# Altium footprint library 691 330 300 0xx.PcbLib: 6 footprints
Each footprint in its own frame and in the unit in brackets; x right, y up, seen from the top. Pads: shape width x height; smd on the part's side, far side on the other; paste and mask are expansions set on the pad; w line width, h text height; cw(c..) or ccw(c..) is an arc to the next point about the centre after c.
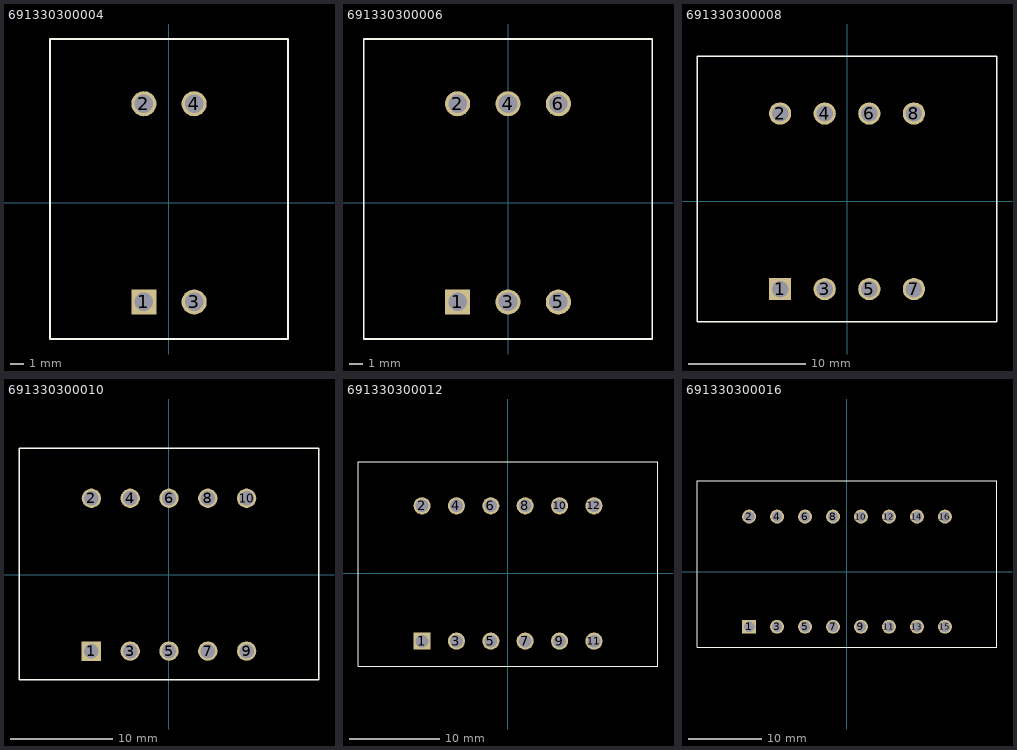
[diagram p0: the footprints below, top view; thin cyan lines are the x and y axes]

## 691330300004 [mm] "3,81mm - PCB - Dual row - Vertical - Flanges - 04p"
pads (4):
  rect 1.9x1.9 hole 1.4: 1(-1.905,-7.5)
  round 1.9 hole 1.4: 2(-1.905,7.5) 3(1.905,-7.5) 4(1.905,7.5)
Top Overlay:
  lines w0.127: -9.005,-10.3 9.005,-10.3 9.005,12.4 -9.005,12.4 -9.005,-10.3
3D body: height 22.01, standoff -3.49, extent -9.005,-10.3 9.005,12.4

## 691330300006 [mm] "3,81mm - PCB - Dual row - Vertical - Flanges - 06p"
pads (6):
  rect 1.9x1.9 hole 1.4: 1(-3.81,-7.5)
  round 1.9 hole 1.4: 2(-3.81,7.5) 3(0,-7.5) 4(0,7.5) 5(3.81,-7.5) 6(3.81,7.5)
Top Overlay:
  lines w0.127: -7.1,-10.3 10.91,-10.3 10.91,12.4 -7.1,12.4 ; 7.1,-10.3 -10.91,-10.3 -10.91,12.4 7.1,12.4
3D body: height 22.01, standoff -3.49, extent -10.91,-10.3 10.91,12.4

## 691330300008 [mm] "3,81mm - PCB - Dual row - Vertical - Flanges - 08p"
pads (8):
  rect 1.9x1.9 hole 1.4: 1(-5.715,-7.5)
  round 1.9 hole 1.4: 2(-5.715,7.5) 3(-1.905,-7.5) 4(-1.905,7.5) 5(1.905,-7.5) 6(1.905,7.5) 7(5.715,-7.5) 8(5.715,7.5)
Top Overlay:
  lines w0.127: -5.195,-10.3 12.815,-10.3 12.815,12.4 -5.195,12.4 ; 5.195,-10.3 -12.815,-10.3 -12.815,12.4 5.195,12.4
3D body: height 22.01, standoff -3.49, extent -12.815,-10.3 12.815,12.4

## 691330300010 [mm] "3,81mm - PCB - Dual row - Vertical - Flanges - 10p"
pads (10):
  rect 1.9x1.9 hole 1.4: 1(-7.62,-7.5)
  round 1.9 hole 1.4: 2(-7.62,7.5) 3(-3.81,-7.5) 4(-3.81,7.5) 5(0,-7.5) 6(0,7.5) 7(3.81,-7.5) 8(3.81,7.5) 9(7.62,-7.5) 10(7.62,7.5)
Top Overlay:
  lines w0.127: -7.1,-10.3 10.91,-10.3 ; -7.1,12.4 10.91,12.4 ; -3.29,-10.3 14.72,-10.3 14.72,12.4 -3.29,12.4 ; 3.29,-10.3 -14.72,-10.3 -14.72,12.4 3.29,12.4
3D body: height 22.01, standoff -3.49, extent -14.72,-10.3 14.72,12.4

## 691330300012 [mm] "3,81mm - PCB - Dual row - Vertical - Flanges - 12p"
pads (12):
  rect 1.9x1.9 hole 1.4: 1(-9.525,-7.5)
  round 1.9 hole 1.4: 2(-9.525,7.5) 3(-5.715,-7.5) 4(-5.715,7.5) 5(-1.905,-7.5) 6(-1.905,7.5) 7(1.905,-7.5) 8(1.905,7.5) 9(5.715,-7.5) 10(5.715,7.5) 11(9.525,-7.5) 12(9.525,7.5)
Top Overlay:
  lines w0.127: -9.005,-10.3 9.005,-10.3 ; -9.005,12.4 9.005,12.4 ; -1.385,-10.3 16.625,-10.3 16.625,12.4 -1.385,12.4 ; 1.385,-10.3 -16.625,-10.3 -16.625,12.4 1.385,12.4
3D body: height 22.01, standoff -3.49, extent -16.625,-10.3 16.625,12.4

## 691330300016 [mm] "3,81mm - PCB - Dual row - Vertical - Flanges - 16p"
pads (16):
  rect 1.9x1.9 hole 1.4: 1(-13.335,-7.5)
  round 1.9 hole 1.4: 2(-13.335,7.5) 3(-9.525,-7.5) 4(-9.525,7.5) 5(-5.715,-7.5) 6(-5.715,7.5) 7(-1.905,-7.5) 8(-1.905,7.5) 9(1.905,-7.5) 10(1.905,7.5) 11(5.715,-7.5) 12(5.715,7.5) 13(9.525,-7.5) 14(9.525,7.5) 15(13.335,-7.5) 16(13.335,7.5)
Top Overlay:
  lines w0.127: -12.815,-10.3 5.195,-10.3 ; -12.815,12.4 5.195,12.4 ; -5.195,-10.3 12.815,-10.3 ; -5.195,12.4 12.815,12.4 ; -2.425,-10.3 -20.435,-10.3 -20.435,12.4 -2.425,12.4 ; 2.425,-10.3 20.435,-10.3 20.435,12.4 2.425,12.4
3D body: height 22.01, standoff -3.49, extent -20.435,-10.3 20.435,12.4